# EAGLE library part DF40C_2.0_-60DS-0.4V_51_ (library DF40C_2.0_-60DS-0.4V_51_)
60 Position Connector Receptacle, Center Strip Contacts Surface Mount Gold Source: Datasheet <https://www.hirose.com/en/product/document?clcode=CL0684-4034-7-51&productname=DF40C(2.0)-60DS-0.4V(51)&series=DF40&documenttype=2DDrawing&lang=en&documentid=0001001343>
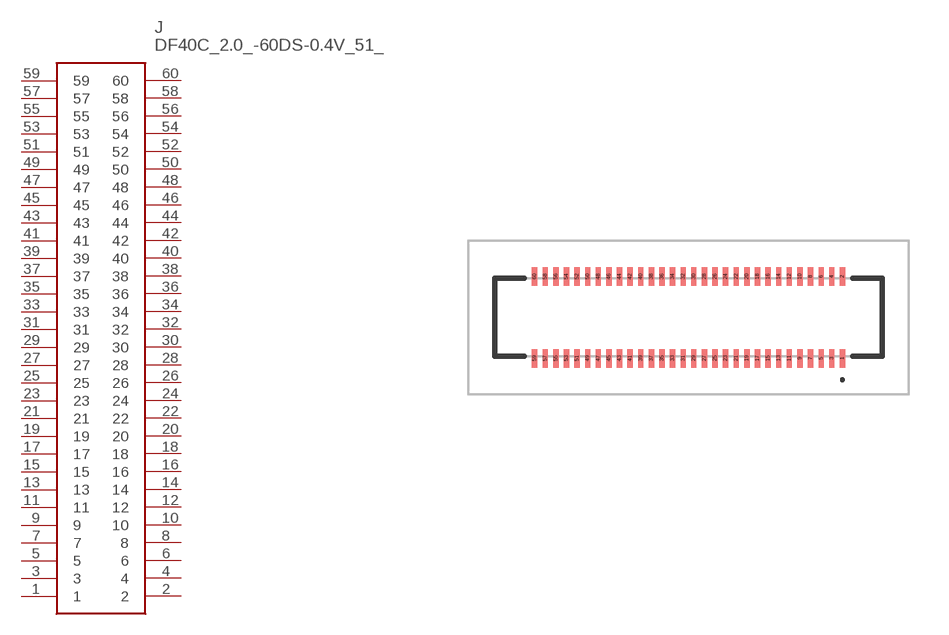
[diagram p0: symbol with the pads of DF40C2060DS04V51; footprint DF40C2060DS04V51]

Designator prefix J

## DF40C_2.0_-60DS-0.4V_51_ (Description: 60 Position Connector Receptacle, Center Strip Contacts Surface Mount Gold; Height: 2.1mm; Manufacturer_Name: Hirose; Manufacturer_Part_Number: DF40C(2.0)-60DS-0.4V(51); Mouser_Part_Number: 798-DF40C2060DS04V51; Mouser_Price-Stock: https://www.mouser.co.uk/ProductDetail/Hirose-Connector/DF40C2.0-60DS-0.4V51?qs=3aug5cyrIbe7JjChnYX6rw%3D%3D)  [DF40C2060DS04V51]
1  1
2  2
3  3
4  4
5  5
6  6
7  7
8  8
9  9
10  10
11  11
12  12
13  13
14  14
15  15
16  16
17  17
18  18
19  19
20  20
21  21
22  22
23  23
24  24
25  25
26  26
27  27
28  28
29  29
30  30
31  31
32  32
33  33
34  34
35  35
36  36
37  37
38  38
39  39
40  40
41  41
42  42
43  43
44  44
45  45
46  46
47  47
48  48
49  49
50  50
51  51
52  52
53  53
54  54
55  55
56  56
57  57
58  58
59  59
60  60

## Footprint DF40C2060DS04V51 (pad centres in mm)
DF40C(2.0)-60DS-0.4V(51)-2
smd 0.2 x 0.7: 1 5.8,-1.54; 2 5.8,1.54; 3 5.4,-1.54; 4 5.4,1.54; 5 5,-1.54; 6 5,1.54; 7 4.6,-1.54; 8 4.6,1.54; 9 4.2,-1.54; 10 4.2,1.54; 11 3.8,-1.54; 12 3.8,1.54; 13 3.4,-1.54; 14 3.4,1.54; 15 3,-1.54; 16 3,1.54; 17 2.6,-1.54; 18 2.6,1.54; 19 2.2,-1.54; 20 2.2,1.54; 21 1.8,-1.54; 22 1.8,1.54; 23 1.4,-1.54; 24 1.4,1.54; 25 1,-1.54; 26 1,1.54; 27 0.6,-1.54; 28 0.6,1.54; 29 0.2,-1.54; 30 0.2,1.54; 31 -0.2,-1.54; 32 -0.2,1.54; 33 -0.6,-1.54; 34 -0.6,1.54; 35 -1,-1.54; 36 -1,1.54; 37 -1.4,-1.54; 38 -1.4,1.54; 39 -1.8,-1.54; 40 -1.8,1.54; 41 -2.2,-1.54; 42 -2.2,1.54; 43 -2.6,-1.54; 44 -2.6,1.54; 45 -3,-1.54; 46 -3,1.54; 47 -3.4,-1.54; 48 -3.4,1.54; 49 -3.8,-1.54; 50 -3.8,1.54; 51 -4.2,-1.54; 52 -4.2,1.54; 53 -4.6,-1.54; 54 -4.6,1.54; 55 -5,-1.54; 56 -5,1.54; 57 -5.4,-1.54; 58 -5.4,1.54; 59 -5.8,-1.54; 60 -5.8,1.54